# EAGLE library part SN74AUP2G86 (library bschulz)
SN74AUP2G86 - XOR, 2 Element, 2 Input Characteristics: VCC: 0.8 ~ 3.6v IQ = 0.5μA Operating Temperature: -40°C to 85°C Digikey: 1727-6892-1-ND (SOT833-1) <https://www.digikey.com/product-detail/en/nexperia-usa-inc/74AUP2G86GT115/1727-6892-1-ND/2814131>
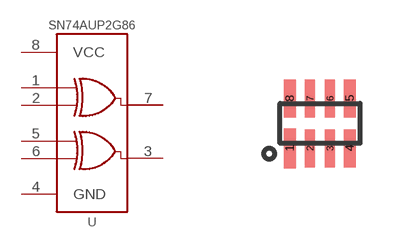
[diagram p68: symbol with the pads of SOT833-1; footprint SOT833-1]

Designator prefix U

## SN74AUP2G86SOT833-1 (DIGIKEY: 1727-6892-1-ND; MF: Nexperia; MPN: 74AUP2G86GT,115)  [SOT833-1]
1  A1  in
2  B1  in
3  Y2  out
4  GND  pwr
5  A2  in
6  B2  in
7  Y1  out
8  VCC  pwr

## Footprint SOT833-1 (pad centres in mm)
smd 0.3 x 1: 1 -0.75,-0.625
smd 0.25 x 0.95: 2 -0.25,-0.625; 3 0.25,-0.625; 6 0.25,0.625; 7 -0.25,0.625
smd 0.3 x 0.95: 4 0.75,-0.625; 5 0.75,0.625; 8 -0.75,0.625